# Altium footprint library inductor-neosid.PCBLIB: 99 footprints (part 4 of 7)
Each footprint in its own frame and in the unit in brackets; x right, y up, seen from the top. Pads: shape width x height; smd on the part's side, far side on the other; paste and mask are expansions set on the pad; w line width, h text height; cw(c..) or ccw(c..) is an arc to the next point about the centre after c.
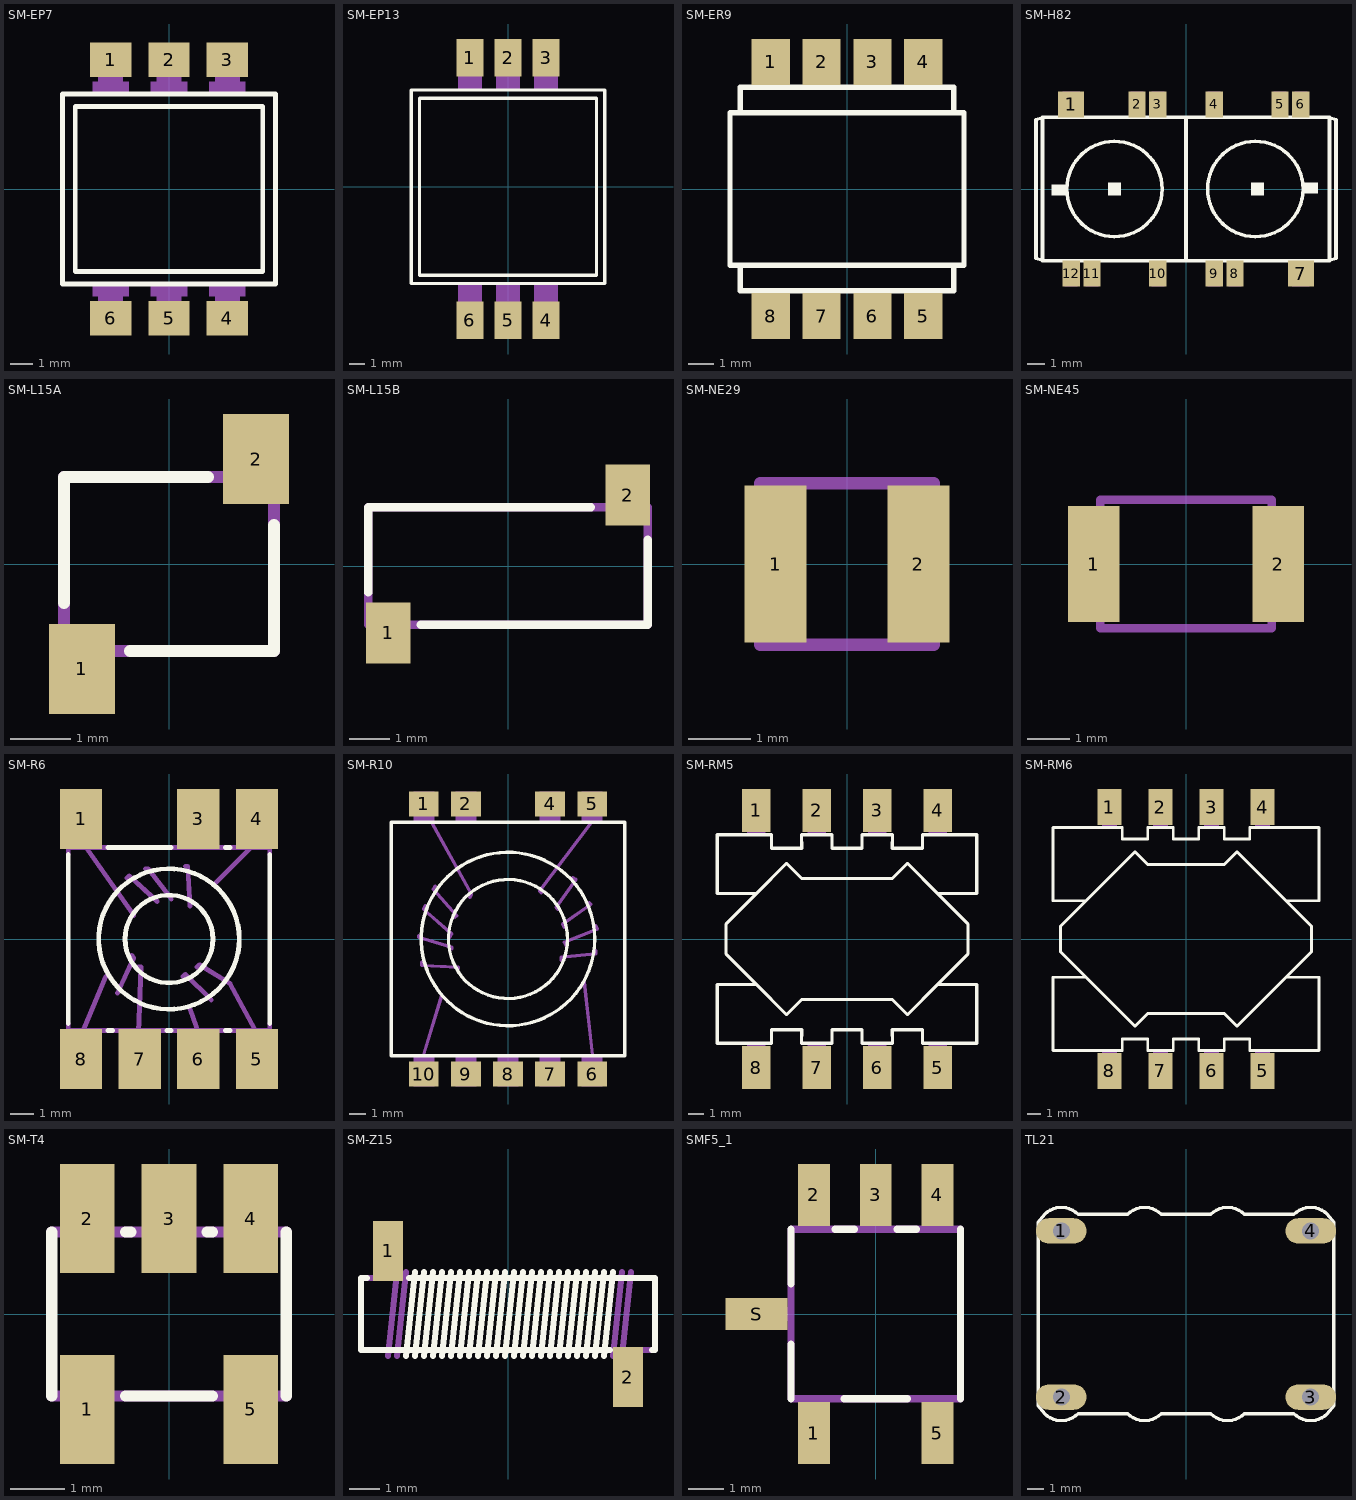
[diagram p3: the footprints below, top view; thin cyan lines are the x and y axes]

## SM-EP7 [mm]
pads (6):
  rect 1.8x1.5 smd: 1(-2.54,5.65) 2(0,5.65) 3(2.54,5.65) 4(2.54,-5.65) 5(0,-5.65) 6(-2.54,-5.65)
Top Overlay:
  lines w0.203: -4.65,-4.15 4.65,-4.15 4.65,4.15 -4.65,4.15 -4.65,-4.15 ; -4.1,-3.6 4.1,-3.6 4.1,3.6 -4.1,3.6 -4.1,-3.6
Mechanical 16:
  rectangle: -3.09,4.65 -2,6.15
  rectangle: -0.55,4.65 0.55,6.15
  rectangle: 2,4.65 3.09,6.15
  rectangle: 2,-6.15 3.09,-4.65
  rectangle: -0.55,-6.15 0.55,-4.65
  rectangle: -3.09,-6.15 -2,-4.65
  rectangle: -3.34,4.2 -1.74,4.7
  rectangle: -0.8,4.2 0.8,4.7
  rectangle: 1.74,4.2 3.34,4.7
  rectangle: 1.74,-4.7 3.34,-4.2
  rectangle: -0.8,-4.7 0.8,-4.2
  rectangle: -3.34,-4.7 -1.74,-4.2

## SM-EP13 [mm]
pads (6):
  rect 1.8x2.5 smd: 1(-2.54,8.6) 2(0,8.6) 3(2.54,8.6) 4(2.54,-8.9) 5(0,-8.9) 6(-2.54,-8.9)
Top Overlay:
  lines w0.203: -6.45,-6.45 6.45,-6.45 6.45,6.45 -6.45,6.45 -6.45,-6.45 ; -5.9,-5.9 5.9,-5.9 5.9,5.9 -5.9,5.9 -5.9,-5.9
Mechanical 16:
  rectangle: -3.09,8.15 -2,9.65
  rectangle: -0.55,8.15 0.55,9.65
  rectangle: 2,8.15 3.09,9.65
  rectangle: 2,-9.65 3.09,-8.15
  rectangle: -0.55,-9.65 0.55,-8.15
  rectangle: -3.09,-9.65 -2,-8.15
  rectangle: -0.8,6.5 0.8,8.2
  rectangle: -3.34,6.5 -1.74,8.2
  rectangle: 1.74,6.5 3.34,8.2
  rectangle: -3.34,-8.2 -1.74,-6.5
  rectangle: -0.8,-8.2 0.8,-6.5
  rectangle: 1.74,-8.2 3.34,-6.5

## SM-ER9 [mm]
pads (8):
  rect 1.5x1.8 smd: 1(-3,5) 2(-1,5) 3(1,5) 4(3,5) 5(3,-5) 6(1,-5) 7(-1,-5) 8(-3,-5)
Top Overlay:
  lines w0.203: -4.2,-3 -4.2,-4 4.2,-4 4.2,-3 ; -4.2,-3 -4.6,-3 -4.6,3 -4.2,3 ; -4.2,-3 4.2,-3 ; -4.2,3 -4.2,4 4.2,4 4.2,3 ; -4.2,3 4.2,3 ; 4.2,-3 4.6,-3 4.6,3 4.2,3
Mechanical 16:
  rectangle: -3.4,4 -2.6,5.8
  rectangle: -1.4,4 -0.6,5.8
  rectangle: 0.6,4 1.4,5.8
  rectangle: 2.6,4 3.4,5.8
  rectangle: 2.6,-5.8 3.4,-4
  rectangle: 0.6,-5.8 1.4,-4
  rectangle: -1.4,-5.8 -0.6,-4
  rectangle: -3.4,-5.8 -2.6,-4

## SM-H82 [mm]
pads (12):
  rect 1.5x1.5 smd: 1(-6.625,4.875) 7(6.625,-4.875)
  rect 1x1.5 smd: 2(-2.825,4.875) 3(-1.625,4.875) 4(1.625,4.875) 5(5.425,4.875) 6(6.625,4.875) 8(2.825,-4.875) 9(1.625,-4.875) 10(-1.625,-4.875) 11(-5.425,-4.875) 12(-6.625,-4.875)
Top Overlay:
  circle w0.203: c-4.125,0 r2.75
  circle w0.203: c4,0 r2.75
  rectangle: -7.75,-0.375 -6.875,0.25
  rectangle: 6.75,-0.25 7.625,0.375
  rectangle: -4.5,-0.375 -3.75,0.375
  rectangle: 3.75,-0.375 4.5,0.375
  lines w0.203: -8.275,-4.125 -8.65,-4 -8.65,4 -8.275,4.125 ; -8.275,-4.125 0,-4.125 ; -8.275,-4.125 -8.275,4.125 ; -8.275,4.125 0,4.125 ; 0,-4.125 8.275,-4.125 ; 0,-4.125 0,4.125 ; 0,4.125 8.275,4.125 ; 8.275,-4.125 8.65,-4 8.65,4 8.275,4.125 ; 8.275,-4.125 8.275,4.125
Mechanical 16:
  rectangle: -7.125,4.125 -6.125,5.625
  rectangle: -2,4.125 -1.25,5.625
  rectangle: -3.2,4.125 -2.45,5.625
  rectangle: 1.25,4.125 2,5.625
  rectangle: 5.05,4.125 5.8,5.625
  rectangle: 6.25,4.125 7,5.625
  rectangle: 6.125,-5.625 7.125,-4.125
  rectangle: 1.25,-5.625 2,-4.125
  rectangle: 2.45,-5.625 3.2,-4.125
  rectangle: -2,-5.625 -1.25,-4.125
  rectangle: -7,-5.625 -6.25,-4.125
  rectangle: -5.8,-5.625 -5.05,-4.125

## SM-L15A [mm]
pads (2):
  rect 1.1x1.5 smd: 1(-1.45,-1.75) 2(1.45,1.75)
Top Overlay:
  lines w0.203: -1.75,-0.65 -1.75,1.45 0.65,1.45 ; -0.65,-1.45 1.75,-1.45 1.75,0.65
Mechanical 16:
  rectangle: 1.2,1.5 1.7,2.2
  rectangle: -1.7,-2.2 -1.2,-1.5
  lines w0.203: -1.75,-1.45 1.75,-1.45 1.75,1.45 -1.75,1.45 -1.75,-1.45

## SM-L15B [mm]
pads (2):
  rect 1.1x1.5 smd: 1(-2.95,-1.65) 2(2.95,1.75)
Top Overlay:
  lines w0.203: -3.45,-0.65 -3.45,1.45 2.05,1.45 ; -2.15,-1.45 3.45,-1.45 3.45,0.65
Mechanical 16:
  rectangle: 2.7,1.5 3.2,2.2
  rectangle: -3.2,-2.1 -2.7,-1.4
  lines w0.203: -3.45,-1.45 3.45,-1.45 3.45,1.45 -3.45,1.45 -3.45,-1.45

## SM-NE29 [mm]
pads (2):
  rect 1x2.54 smd: 1(-1.15,0) 2(1.15,0)
Mechanical 16:
  lines w0.203: -1.4,-1.3 -1.4,1.3 1.4,1.3 1.4,-1.3 -1.4,-1.3

## SM-NE45 [mm]
pads (2):
  rect 1.2x2.7 smd: 1(-2.15,0) 2(2.15,0)
Mechanical 16:
  lines w0.203: -2,-1.5 2,-1.5 2,1.5 -2,1.5 -2,-1.5

## SM-R6 [mm]
pads (7):
  rect 1.8x2.55 smd: 1(-3.75,5.125) 3(1.25,5.125) 4(3.75,5.125) 5(3.75,-5.125) 6(1.25,-5.125) 7(-1.25,-5.125) 8(-3.75,-5.125)
Top Overlay:
  circle w0.203: c0,0 r3
  circle w0.203: c0,0 r1.875
  lines w0.203: -4.3,-3.6 -4.3,3.6 ; -2.6,-3.9 -2.4,-3.9 ; -2.6,3.9 0.1,3.9 ; -0.1,-3.9 0.1,-3.9 ; 2.4,-3.9 2.6,-3.9 ; 2.4,3.9 2.6,3.9 ; 4.3,-3.6 4.3,3.6
Mechanical 16:
  rectangle: -4.125,4 -3.375,5.375
  rectangle: 0.875,4 1.625,5.375
  rectangle: 3.375,4 4.125,5.375
  rectangle: 3.375,-5.375 4.125,-4
  rectangle: 0.875,-5.375 1.625,-4
  rectangle: -1.625,-5.375 -0.875,-4
  rectangle: -4.125,-5.375 -3.375,-4
  lines w0.203: -4.3,-3.6 -4.3,-3.9 -2.6,-3.9 ; -4.3,3.6 -4.3,3.9 -2.6,3.9 ; -3.7,-4 -2.7,-1.6 ; -3.6,4 -1.5,1 ; -2.4,-3.9 -0.1,-3.9 ; -2.2,-2.3 -1.5,-0.8 -1.6,-0.7 ; -1.8,2.6 -1.7,2.7 -0.5,1.6 ; -1.3,-4 -1.2,-1.2 -1.3,-1.2 ; -1,3 -0.9,3 0.1,1.7 ; 0.1,-3.9 2.4,-3.9 ; 0.1,3.9 2.4,3.9 ; 0.6,-1.6 0.7,-1.5 1.8,-2.6 ; 0.7,3.1 0.8,3.1 0.9,1.4 ; 0.9,-3 1.3,-4.1 ; 1.2,-1.2 1.3,-1.1 2.6,-1.9 3.8,-4.1 ; 2,2.4 3.7,4.1 ; 2.6,-3.9 4.3,-3.9 4.3,-3.6 ; 2.6,3.9 4.3,3.9 4.3,3.6

## SM-R10 [mm]
pads (9):
  rect 1.8x1.5 smd: 1(-5.08,8.15) 2(-2.54,8.15) 4(2.54,8.15) 5(5.08,8.15) 6(5.08,-8.15) 7(2.54,-8.15) 8(0,-8.15) 9(-2.54,-8.15) 10(-5.08,-8.15)
Top Overlay:
  circle w0.203: c0,0 r5.236
  circle w0.203: c0,0 r3.592
  lines w0.203: -7.05,-7.05 7.05,-7.05 7.05,7.05 -7.05,7.05 -7.05,-7.05
Mechanical 16:
  rectangle: -5.715,7.112 -4.445,8.89
  rectangle: -3.175,7.112 -1.905,8.89
  rectangle: 1.905,7.112 3.175,8.89
  rectangle: 4.445,7.112 5.715,8.89
  rectangle: 4.445,-8.89 5.715,-7.112
  rectangle: 1.905,-8.89 3.175,-7.112
  rectangle: -0.635,-8.89 0.635,-7.112
  rectangle: -3.175,-8.89 -1.905,-7.112
  rectangle: -5.715,-8.89 -4.445,-7.112
  lines w0.203: -5.4,0.2 -5.4,0.1 -3.4,-0.5 -3.4,-0.6 ; -5.2,-1.4 -5.2,-1.6 -3,-1.7 -3,-1.8 ; -5.1,-7 -4,-3.4 ; -5,2 -5.1,1.8 -3.4,0.3 -3.5,0.1 ; -4.6,7 -2.2,2.7 -2.3,2.5 ; -4.4,3.2 -4.5,3 -3.1,1.4 -3.2,1.3 ; 2,2.8 1.9,2.9 5,7 ; 3,1.8 2.9,1.9 4.1,3.6 3.9,3.7 ; 3.2,-1.3 3.2,-1.1 5.3,-0.9 5.3,-0.7 ; 3.4,0.7 3.3,0.9 5,2.1 4.9,2.2 ; 3.5,-0.4 3.4,-0.2 5.4,0.6 5.3,0.8 ; 4.6,-2.6 5.1,-7

## SM-RM5 [mm]
pads (8):
  rect 1.8x2.7 smd: 1(-5.715,8.1) 2(-1.905,8.1) 3(1.905,8.1) 4(5.715,8.1) 5(5.715,-8.1) 6(1.905,-8.1) 7(-1.905,-8.1) 8(-5.715,-8.1)
Top Overlay:
  lines w0.203: -5.715,-2.857 -8.173,-2.858 -8.173,-6.567 -4.763,-6.567 -4.763,-5.715 -2.857,-5.715 -2.858,-6.567 -0.953,-6.567 -0.953,-5.715 0.953,-5.715 0.953,-6.567 2.858,-6.567 2.857,-5.715 4.763,-5.715 4.763,-6.567 8.173,-6.567 8.173,-2.858 5.715,-2.857 ; -5.715,-2.857 -7.62,-0.953 -7.62,0.953 -5.715,2.857 ; -5.715,-2.857 -3.81,-4.763 -2.857,-3.81 2.857,-3.81 3.81,-4.763 5.715,-2.857 ; -5.715,2.857 -8.173,2.858 -8.173,6.567 -4.763,6.567 -4.763,5.715 -2.857,5.715 -2.858,6.567 -0.953,6.567 -0.953,5.715 0.953,5.715 0.953,6.567 2.858,6.567 2.857,5.715 4.763,5.715 4.763,6.567 8.173,6.567 8.173,2.858 5.715,2.857 ; -5.715,2.857 -3.81,4.763 -2.857,3.81 2.857,3.81 3.81,4.763 5.715,2.857 ; 5.715,-2.857 7.62,-0.953 7.62,0.953 5.715,2.857
Mechanical 16:
  rectangle: -6.286,6.667 -5.143,9.335
  rectangle: -2.476,6.667 -1.333,9.335
  rectangle: 1.333,6.667 2.476,9.335
  rectangle: 5.143,6.667 6.286,9.335
  rectangle: 5.143,-9.335 6.286,-6.667
  rectangle: 1.333,-9.335 2.476,-6.667
  rectangle: -2.476,-9.335 -1.333,-6.667
  rectangle: -6.286,-9.335 -5.143,-6.667

## SM-RM6 [mm]
pads (8):
  rect 1.8x2.7 smd: 1(-5.715,9.85) 2(-1.905,9.85) 3(1.905,9.85) 4(5.715,9.85) 5(5.715,-9.85) 6(1.905,-9.85) 7(-1.905,-9.85) 8(-5.715,-9.85)
Top Overlay:
  lines w0.203: -7.465,-2.858 -9.923,-2.858 -9.923,-8.318 -4.763,-8.318 -4.763,-7.465 -2.858,-7.465 -2.858,-8.318 -0.953,-8.318 -0.953,-7.465 0.953,-7.465 0.953,-8.318 2.858,-8.318 2.858,-7.465 4.763,-7.465 4.763,-8.318 9.923,-8.318 9.923,-2.858 7.465,-2.858 ; -7.465,-2.858 -9.37,-0.953 -9.37,0.953 -7.465,2.858 ; -7.465,-2.858 -3.81,-6.513 -2.858,-5.56 2.858,-5.56 3.81,-6.513 7.465,-2.858 ; -7.465,2.858 -9.923,2.858 -9.923,8.318 -4.763,8.318 -4.763,7.465 -2.858,7.465 -2.858,8.318 -0.953,8.318 -0.953,7.465 0.953,7.465 0.953,8.318 2.858,8.318 2.858,7.465 4.763,7.465 4.763,8.318 9.923,8.318 9.923,2.858 7.465,2.858 ; -7.465,2.858 -3.81,6.513 -2.858,5.56 2.858,5.56 3.81,6.513 7.465,2.858 ; 7.465,-2.858 9.37,-0.953 9.37,0.953 7.465,2.858
Mechanical 16:
  rectangle: -6.286,8.418 -5.143,11.085
  rectangle: -2.476,8.418 -1.333,11.085
  rectangle: 1.333,8.418 2.476,11.085
  rectangle: 5.143,8.418 6.286,11.085
  rectangle: 5.143,-11.085 6.286,-8.418
  rectangle: 1.333,-11.085 2.476,-8.418
  rectangle: -2.476,-11.085 -1.333,-8.418
  rectangle: -6.286,-11.085 -5.143,-8.418

## SM-T4 [mm]
pads (5):
  rect 1x2 smd: 1(-1.5,-1.75) 2(-1.5,1.75) 3(0,1.75) 4(1.5,1.75) 5(1.5,-1.75)
Top Overlay:
  lines w0.203: -2.15,-1.5 -2.15,1.5 ; -0.8,-1.5 0.8,-1.5 ; -0.8,1.5 -0.7,1.5 ; 0.7,1.5 0.8,1.5 ; 2.15,-1.5 2.15,1.5
Mechanical 16:
  lines w0.203: -2.15,-1.5 -1.75,-1.5 -1.75,-2.15 -1.25,-2.15 -1.25,-1.5 1.25,-1.5 1.25,-2.15 1.75,-2.15 1.75,-1.5 2.15,-1.5 ; -2.15,1.5 -1.75,1.5 -1.75,2.15 -1.25,2.15 -1.25,1.5 -0.25,1.5 -0.25,2.15 0.25,2.15 0.25,1.5 1.25,1.5 1.25,2.15 1.75,2.15 1.75,1.5 2.15,1.5

## SM-Z15 [mm]
pads (2):
  rect 1x2 smd: 1(-4,2.1) 2(4,-2.1)
Top Overlay:
  lines w0.203: -4.7,1.2 -4.9,1.2 -4.9,-1.2 3.4,-1.2 ; -3.4,-1.4 -3.1,1.4 ; -3.3,1.2 4.9,1.2 4.9,-1.2 4.8,-1.2 ; -3.1,-1.4 -2.8,1.4 ; -2.8,-1.4 -2.5,1.4 ; -2.5,-1.4 -2.2,1.4 ; -2.2,-1.4 -1.9,1.4 ; -1.9,-1.4 -1.6,1.4 ; -1.6,-1.4 -1.3,1.4 ; -1.3,-1.4 -1,1.4 ; -1,-1.4 -0.7,1.4 ; -0.7,-1.4 -0.4,1.4 ; -0.4,-1.4 -0.1,1.4 ; -0.1,-1.4 0.2,1.4 ; 0.2,-1.4 0.5,1.4 ; 0.5,-1.4 0.8,1.4 ; 0.8,-1.4 1.1,1.4 ; 1.1,-1.4 1.4,1.4 ; 1.4,-1.4 1.7,1.4 ; 1.7,-1.4 2,1.4 ; 2,-1.4 2.3,1.4 ; 2.3,-1.4 2.6,1.4 ; 2.6,-1.4 2.9,1.4 ; 2.9,-1.4 3.2,1.4 ; 3.2,-1.4 3.5,1.4
Mechanical 16:
  lines w0.203: -4.7,1.2 -4,1.2 ; -4,-1.4 -3.7,1.4 ; -4,2.7 -4,1.2 ; -3.7,-1.4 -3.4,1.4 ; -3.3,1.2 -4,1.2 ; 3.2,-1.2 4,-1.2 ; 3.5,-1.4 3.8,1.4 ; 3.8,-1.4 4.1,1.4 ; 4,-2.7 4,-1.2 ; 4.8,-1.2 4,-1.2

## SMF5_1 [mm]
pads (6):
  rect 0.9x1.75 smd: 1(-1.75,-3.375) 2(-1.75,3.375) 3(0,3.375) 4(1.75,3.375) 5(1.75,-3.375)
  rect 1.75x0.9 smd: S(-3.375,0)
Top Overlay:
  lines w0.203: -2.4,-2.4 -2.4,-0.85 ; -2.4,0.85 -2.4,2.4 ; -1.15,2.4 -0.6,2.4 ; -0.9,-2.4 0.9,-2.4 ; 0.6,2.4 1.15,2.4 ; 2.4,-2.4 2.4,2.4
Mechanical 16:
  rectangle: -0.2,2.5 0.2,3.5
  rectangle: -1.95,2.5 -1.55,3.5
  rectangle: 1.55,2.5 1.95,3.5
  rectangle: -1.95,-3.5 -1.55,-2.5
  rectangle: 1.55,-3.5 1.95,-2.5
  rectangle: -3.5,-0.2 -2.5,0.2
  lines w0.203: 2.4,-2.4 -2.4,-2.4 -2.4,2.4 2.4,2.4

## TL21 [mil]
pads (4):
  oval 120x60 hole 40: 1(-295.28,196.85) 2(-295.28,-196.85) 3(295.28,-196.85) 4(295.28,196.85)
Top Overlay:
  lines w8: -350.39,-216.54 -350.39,216.54 -334.65,236.22 cw(c-295.28,196.85) -255.91,236.22 -137.8,236.22 cw(c-98.43,196.85) -59.06,236.22 59.06,236.22 cw(c98.43,196.85) 137.8,236.22 255.91,236.22 cw(c295.28,196.85) 334.65,236.22 350.39,216.54 350.39,-216.54 334.65,-236.22 cw(c295.28,-196.85) 255.91,-236.22 137.8,-236.22 cw(c98.43,-196.85) 59.06,-236.22 -59.06,-236.22 cw(c-98.43,-196.85) -137.8,-236.22 -255.91,-236.22 cw(c-295.28,-196.85) -334.65,-236.22 -350.39,-216.54